# EAGLE library part MMC5883MA (library U-Memsic-MMC5883-3-Axis-Magnetometer)
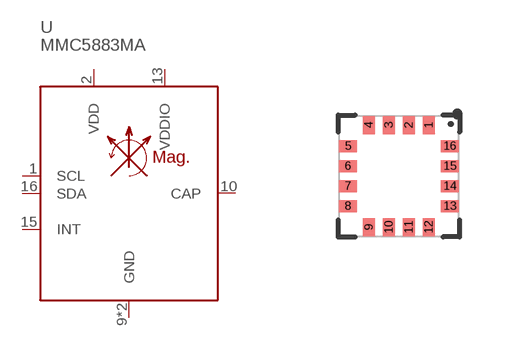
[diagram p0: symbol with the pads of LGA-16(3X3); footprint LGA-16(3X3)]

Designator prefix -

## MMC5883MA  [LGA-16(3X3)]
1  SCL  in
2  VDD  pwr
9  GND  pwr
10  CAP  pwr
11  GND  pwr
13  VDDIO  pwr
15  INT  out
16  SDA

## Footprint LGA-16(3X3) (pad centres in mm)
smd 0.3 x 0.45: 1 0.75,1.275; 2 0.25,1.275; 3 -0.25,1.275; 4 -0.75,1.275; 9 -0.75,-1.275; 10 -0.25,-1.275; 11 0.25,-1.275; 12 0.75,-1.275
smd 0.45 x 0.3: 5 -1.275,0.75; 6 -1.275,0.25; 7 -1.275,-0.25; 8 -1.275,-0.75; 13 1.275,-0.75; 14 1.275,-0.25; 15 1.275,0.25; 16 1.275,0.75